# Altium footprint library GRC PCB library.PcbLib: 166 footprints (part 4 of 11)
Each footprint in its own frame and in the unit in brackets; x right, y up, seen from the top. Pads: shape width x height; smd on the part's side, far side on the other; paste and mask are expansions set on the pad; w line width, h text height; cw(c..) or ccw(c..) is an arc to the next point about the centre after c.
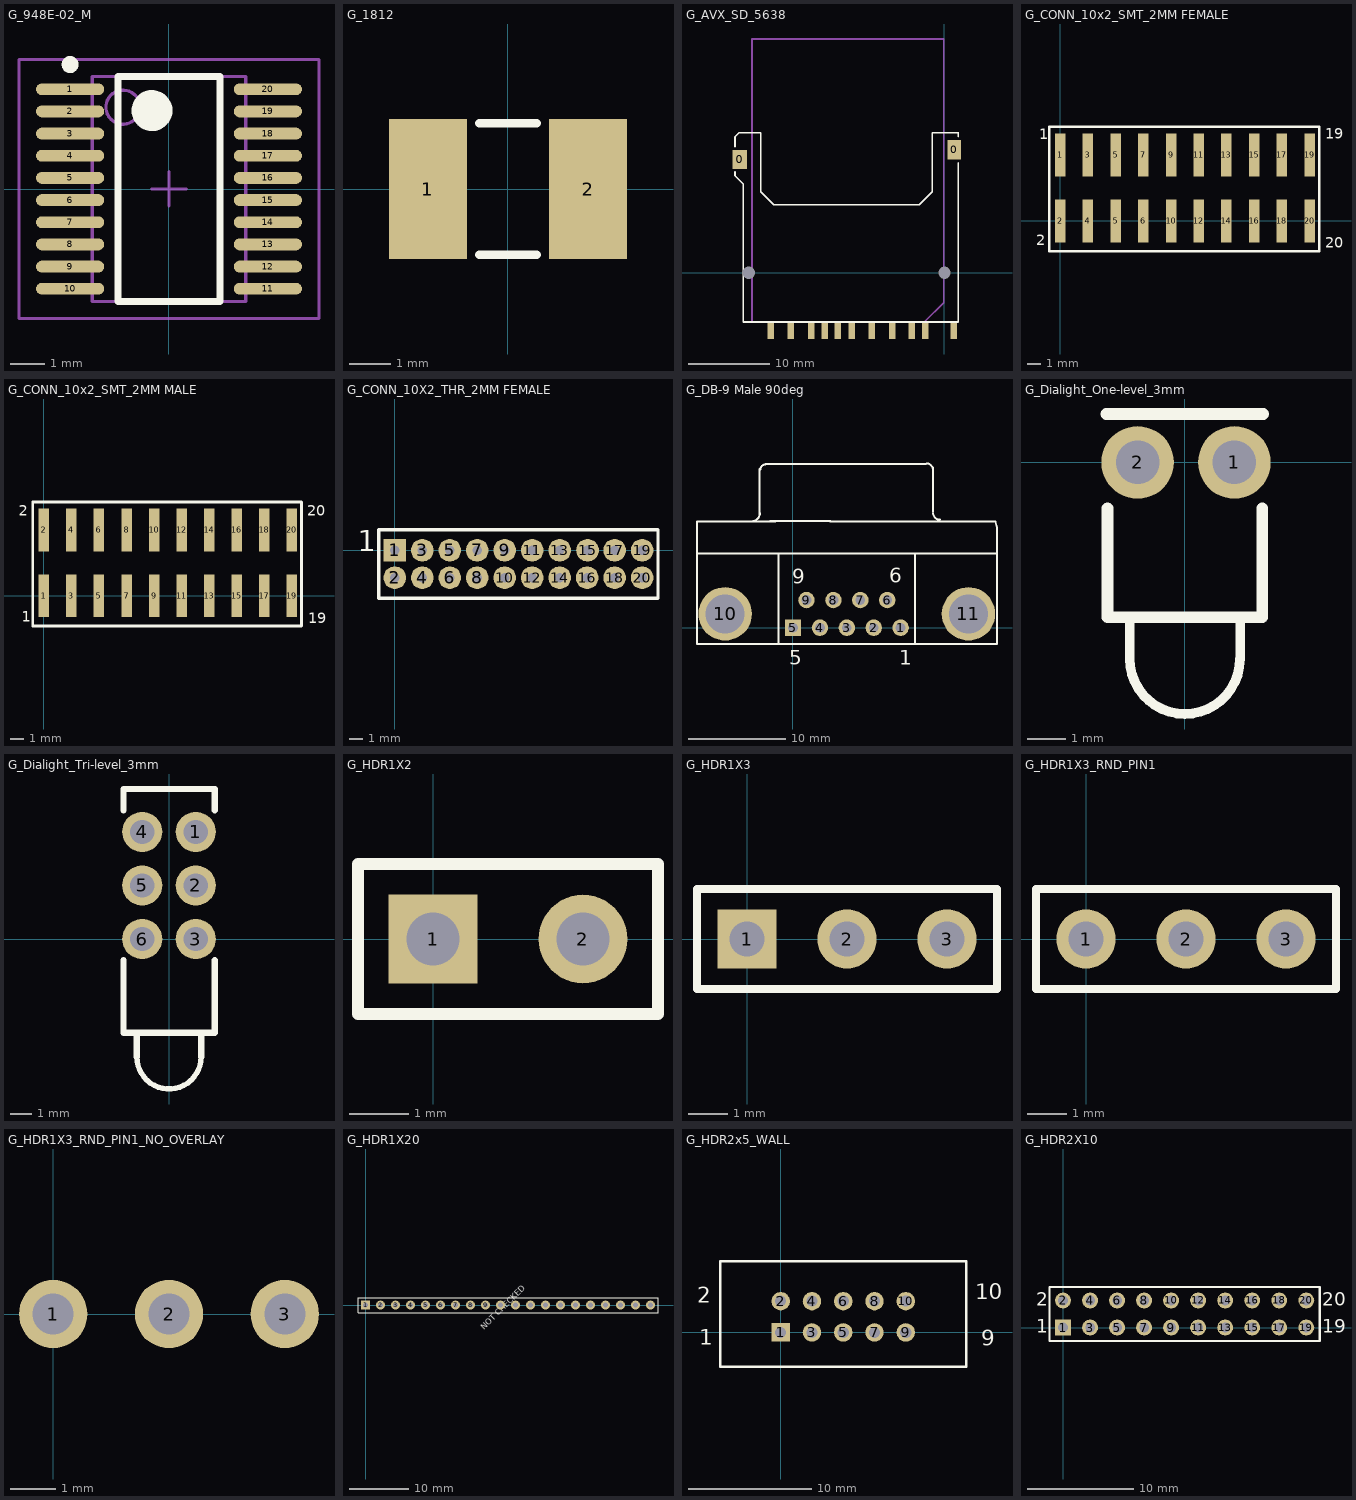
[diagram p3: the footprints below, top view; thin cyan lines are the x and y axes]

## G_948E-02_M [mm] "TSOP, 20-Leads, Body 6.5x4.4mm, Pitch 0.65mm, IPC Low Density"
height 1.2
pads (20):
  oval 2x0.35 smd: 1(-2.9,2.925) 2(-2.9,2.275) 3(-2.9,1.625) 4(-2.9,0.975) 5(-2.9,0.325) 6(-2.9,-0.325) 7(-2.9,-0.975) 8(-2.9,-1.625) 9(-2.9,-2.275) 10(-2.9,-2.925) 11(2.9,-2.925) 12(2.9,-2.275) 13(2.9,-1.625) 14(2.9,-0.975) 15(2.9,-0.325) 16(2.9,0.325) 17(2.9,0.975) 18(2.9,1.625) 19(2.9,2.275) 20(2.9,2.925)
Top Overlay:
  circle w0.6: c-0.5,2.3 r0.3
  circle w0.25: c-2.9,3.65 r0.125
  lines w0.2: -1.5,-3.3 1.5,-3.3 1.5,3.3 -1.5,3.3 -1.5,-3.3
Mechanical 13:
  circle w0.1: c-1.35,2.4 r0.5
  lines w0.1: -2.25,-3.3 2.25,-3.3 2.25,3.3 -2.25,3.3 -2.25,-3.3
Mechanical 15:
  lines w0.1: -0.5,0 0.5,0 ; 0,-0.5 0,0.5 ; -4.4,-3.8 4.4,-3.8 4.4,3.8 -4.4,3.8 -4.4,-3.8
3D body: height 1.2, standoff 0, extent -2.25,-3.3 2.25,3.3

## G_1812 [mm] "Chip Resistor Body 4.5 x 3.2 mm (LxW typ)"
height 2.1
pads (2):
  rect 1.9x3.4 smd: 1(-1.95,0) 2(1.95,0)
Top Overlay:
  lines w0.2: -0.7,-1.6 0.7,-1.6 ; -0.7,1.6 0.7,1.6

## G_AVX_SD_5638 [mm] "AVX SD card connector 5638 series"
height 4.4
pads (15):
  rect 1.8x2.4 smd: 0(-25.3,14)
  rect 1.7x2.4 smd: 0(1.2,15.2)
  rect 0.8x2 smd: 1(-18.98,-7.2) 2(-16.48,-7.2) 3(-13.18,-7.2) 4(-11.48,-7.2) 5(-8.98,-7.2) 6(-6.48,-7.2) 7(-4.05,-7.2) 8(-2.35,-7.2) 9(-21.48,-7.2) C(-14.78,-7.2) S(1.14,-7.2)
  rect 0x0 hole 1.5 unplated: " "(-24.2,0) " "(0,0)
Top Overlay:
  lines w0.2: -25.9,12.5 -25.9,12 -24.9,11 ; 1.7,13.6 1.7,-6.1 -24.9,-6.1 ; 1.7,16.8 1.7,17.3 ; -25.9,15.6 -25.9,16.8 -25.4,17.3 -22.7,17.3 ; -25.9,15.6 -25.9,15.6 ; -24.9,-6.1 -24.9,11 ; -24.9,-6.1 -24.9,11 ; -22.7,17.3 -22.7,17.3 ; -22.7,17.3 -22.7,10 -21.1,8.4 -3.1,8.4 -1.5,10 -1.5,17.3 1.7,17.3 ; 1.7,17.3 1.7,17.3
Mechanical 13:
  lines w0.2: -23.8,-6.1 -2.5,-6.1 -0.1,-3.7 -0.1,28.9 -23.8,28.9 -23.8,-6.1

## G_CONN_10x2_SMT_2MM FEMALE [mm] "3M Thru Hole Socket 1532 series"
height 3.28
pads (20):
  rect 0.76x3.1 smd: 1(0,4.77) 2(0,0) 3(2,4.77) 4(2,0) 5(4,0) 5(4,4.77) 6(6,0) 7(6,4.77) 9(8,4.77) 10(8,0) 11(10,4.77) 12(10,0) 13(12,4.77) 14(12,0) 15(14,4.77) 16(14,0) 17(16,4.77) 18(16,0) 19(18,4.77) 20(18,0)
Top Overlay:
  lines w0.2: -0.8,-2.2 18.7,-2.2 18.7,0 18.7,6.8 -0.8,6.8 -0.8,0 -0.8,-2.2
  text "19" at 19.125,5.925 h0.76
  text "20" at 19.15,-1.95 h0.76
  text "2" at -1.75,-1.75 h0.76
  text "1" at -1.5,5.875 h0.76

## G_CONN_10x2_SMT_2MM MALE [mm] "3M Pin Strip Header 1512 series"
height 3.86
pads (20):
  rect 0.76x3.1 smd: 1(0,0) 2(0,4.77) 3(2,0) 4(2,4.77) 5(4,0) 6(4,4.77) 7(6,0) 8(6,4.77) 9(8,0) 10(8,4.77) 11(10,0) 12(10,4.77) 13(12,0) 14(12,4.77) 15(14,0) 16(14,4.77) 17(16,0) 18(16,4.77) 19(18,0) 20(18,4.77)
Top Overlay:
  lines w0.2: -0.8,-2.2 -0.8,0 -0.8,6.8 18.7,6.8 18.7,0 18.7,-2.2 -0.8,-2.2
  text "1" at -1.6,-1.9 h0.76
  text "2" at -1.8,5.8 h0.76
  text "20" at 19.1,5.8 h0.76
  text "19" at 19.2,-2 h0.76

## G_CONN_10X2_THR_2MM FEMALE [mm] "CONN RCPT 2MM 20POS DL VERT PCB"
height 6.35
pads (20):
  rect 1.65x1.65 hole 0.7: 1(0,0)
  round 1.65 hole 0.7: 2(0,-2) 3(2,0) 4(2,-2) 5(4,0) 6(4,-2) 7(6,0) 8(6,-2) 9(8,0) 10(8,-2) 11(10,0) 12(10,-2) 13(12,0) 14(12,-2) 15(14.025,0) 16(14,-2) 17(16,0) 18(16,-2) 19(18,0) 20(18,-2)
Top Overlay:
  lines w0.254: -1.15,-3.5 -1.15,1.5 19.15,1.5 19.15,-3.5 -1.15,-3.5
  text "1" at -2.675,-0.075 h1.52

## G_DB-9 Male 90deg [mm] "Connector; D Subminiature; 9 Position; Right Angle; Pitch 1.385 mm"
height 12.75
pads (11):
  round 1.69 hole 1: 1(11.064,0) 2(8.299,0) 3(5.54,0) 4(2.771,0) 6(9.695,2.84) 7(6.925,2.84) 8(4.155,2.84) 9(1.385,2.84)
  rect 1.69x1.69 hole 1: 5(0,0)
  round 5.5 hole 4: 10(-6.98,1.42) 11(18.044,1.42)
Top Overlay:
  lines w0.2: -9.87,7.63 20.93,7.63 ; -4.258,10.942 ccw(c-4.258,11.8) -3.4,11.8 ; -3.425,11.6 -3.425,16.3 ; -3.353,16.247 cw(c-2.8,16.247) -2.8,16.8 ; -2.825,16.85 13.675,16.85 ; -2.345,10.95 0.075,10.95 ; -1.82,10.9 -9.87,10.9 -9.87,-1.7 20.975,-1.7 20.975,10.325 20.8,10.9 3.8,10.9 ; -1.5,-1.6 -1.47,7.63 ; 0.025,10.95 3.875,10.95 ; 12.53,-1.6 12.53,7.63 ; 13.705,16.895 cw(c13.705,16.2) 14.4,16.2 ; 14.395,11.95 14.395,16.45 ; 14.405,11.814 ccw(c15.1,11.795) 15.1,11.1
  text "1" at 10.9,-3.8 h1.5
  text "6" at 9.9,4.6 h1.5
  text "9" at -0.1,4.5 h1.5
  text "5" at -0.4,-3.8 h1.5

## G_Dialight_One-level_3mm [mm]
height 6.35
pads (2):
  round 1.905 hole 1.143: 1(1.3,0) 2(-1.24,0)
Top Overlay:
  lines w0.254: -1.445,-4.06 -1.445,-5.155 ccw(c0,-5.155) 1.445,-5.155 ; 1.455,-5.155 1.455,-4.06
  lines w0.305: -2.06,1.27 2.06,1.27 ; -2.03,-1.2 -2.03,-4.06 2.03,-4.06 2.03,-1.2

## G_Dialight_Tri-level_3mm [mil]
pads (6):
  round 75 hole 45: 1(50,200) 2(50,100) 3(50,0) 4(-50,200) 5(-50,100) 6(-50,0)
Top Overlay:
  lines w10: -60,-220 ccw(c0,-220) 60,-220
  lines w12: -85,-40 -85,-175 85,-175 85,-40 ; -85,240 -85,280 85,280 85,240 ; -60,-220 -60,-175 ; 60,-220 60,-175

## G_HDR1X2 [mm] "Connector; Header; 2 Position"
height 8
pads (2):
  rect 1.5x1.5 hole 0.9: 1(0,0)
  round 1.5 hole 0.9: 2(2.54,0)
Top Overlay:
  lines w0.2: -1.27,-1.27 -1.27,1.27 3.81,1.27 3.81,-1.27 -1.27,-1.27

## G_HDR1X3 [mm] "Connector; Header; 3 Position"
height 8
pads (3):
  rect 1.5x1.5 hole 0.9: 1(0,0)
  round 1.5 hole 0.9: 2(2.54,0) 3(5.08,0)
Top Overlay:
  lines w0.2: -1.27,-1.27 6.35,-1.27 6.35,1.27 -1.27,1.27 -1.27,-1.27

## G_HDR1X3_RND_PIN1 [mm] "Connector; Header; 3 Position, Round Pin 1 (Not Square)"
height 8
pads (3):
  round 1.5 hole 0.9: 1(0,0) 2(2.54,0) 3(5.08,0)
Top Overlay:
  lines w0.2: -1.27,-1.27 -1.27,1.27 6.35,1.27 6.35,-1.27 -1.27,-1.27

## G_HDR1X3_RND_PIN1_NO_OVERLAY [mm] "Connector; Header; 3 Position, Round Pin 1 (Not Square)"
height 8
pads (3):
  round 1.5 hole 0.9: 1(0,0) 2(2.54,0) 3(5.08,0)

## G_HDR1X20 [mm] "Connector; Header; 20 Position"
height 8
pads (20):
  rect 1.5x1.5 hole 0.9: 1(0,0)
  round 1.5 hole 0.9: 2(2.54,0) 3(5.08,0) 4(7.62,0) 5(10.16,0) 6(12.7,0) 7(15.24,0) 8(17.78,0) 9(20.32,0) 10(22.86,0) 11(25.4,0) 12(27.94,0) 13(30.48,0) 14(33.02,0) 15(35.56,0) 16(38.1,0) 17(40.64,0) 18(43.18,0) 19(45.72,0) 20(48.26,0)
Top Overlay:
  lines w0.2: -1.27,-1.27 -1.27,1.27 0.635,1.27 49.53,1.27 49.53,-1.27 -1.27,-1.27
  text "NOT CHECKED" at 20.1,-4.3 h1

## G_HDR2x5_WALL [mm] "Connector; Wall Header; 5x2 Position"
height 8
pads (10):
  rect 1.5x1.5 hole 0.9: 1(0,0)
  round 1.5 hole 0.9: 2(0,2.54) 3(2.54,0) 4(2.54,2.54) 5(5.08,0) 6(5.08,2.54) 7(7.62,0) 8(7.62,2.54) 9(10.16,0) 10(10.16,2.54)
Top Overlay:
  lines w0.2: -4.928,-2.794 -4.928,5.791 1.905,5.791 15.088,5.791 15.088,-2.794 1.905,-2.794 -4.928,-2.794
  text "10" at 15.8,2.7 h1.27
  text "9" at 16.3,-1.1 h1.27
  text "1" at -6.6,-1 h1.27
  text "2" at -6.8,2.4 h1.27

## G_HDR2X10 [mm] "Connector; Header; 10x2 Position"
height 8
pads (20):
  rect 1.5x1.5 hole 0.9: 1(0,0)
  round 1.5 hole 0.9: 2(0,2.54) 3(2.54,0) 4(2.54,2.54) 5(5.08,0) 6(5.08,2.54) 7(7.62,0) 8(7.62,2.54) 9(10.16,0) 10(10.16,2.54) 11(12.7,0) 12(12.7,2.54) 13(15.24,0) 14(15.24,2.54) 15(17.78,0) 16(17.78,2.54) 17(20.32,0) 18(20.32,2.54) 19(22.86,0) 20(22.86,2.54)
Top Overlay:
  lines w0.2: -1.27,-1.27 -1.27,3.81 0.635,3.81 24.13,3.81 24.13,-1.27 0.635,-1.27 -1.27,-1.27
  text "2" at -2.54,2.032 h1.27
  text "1" at -2.54,-0.508 h1.27
  text "19" at 24.384,-0.508 h1.27
  text "20" at 24.384,2.032 h1.27